# EAGLE library part MRF49XA (library hello_radio_016)
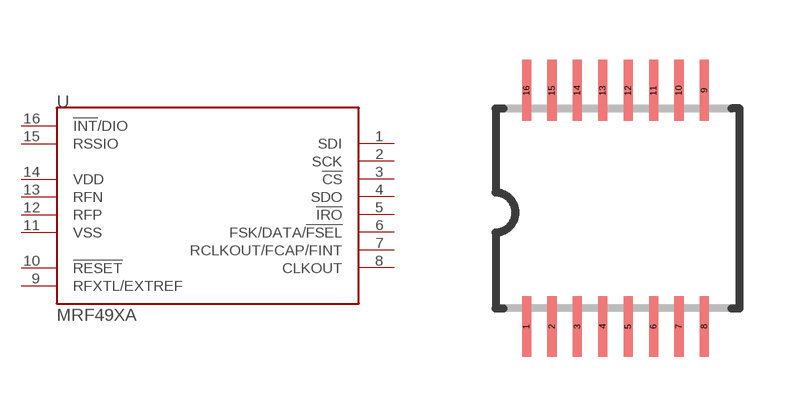
[diagram p3: symbol with the pads of FAB_TSSOP16; footprint FAB_TSSOP16]

Designator prefix -

## MRF49XA_FAB_TSSOP16  [FAB_TSSOP16]
1  SDI
2  SCK
3  !CS
4  SDO
5  !IRO
6  FSK/DATA/!FSEL
7  RCLKOUT/FCAP/FINT
8  CLKOUT
9  RFXTL/EXTREF
10  !RESET
11  VSS
12  RFP
13  RFN
14  VDD
15  RSSIO
16  !INT!/DIO

## Footprint FAB_TSSOP16 (pad centres in mm)
TSOP16 thin small outline package
smd 0.229 x 1.524: 1 -2.223,-2.85; 2 -1.587,-2.85; 3 -0.953,-2.85; 4 -0.318,-2.85; 5 0.318,-2.85; 6 0.953,-2.85; 7 1.587,-2.85; 8 2.223,-2.85; 9 2.223,3.05; 10 1.587,3.05; 11 0.953,3.05; 12 0.318,3.05; 13 -0.318,3.05; 14 -0.953,3.05; 15 -1.587,3.05; 16 -2.223,3.05